# EAGLE library part CPD-23011SG1/A (library LED)
CPD23011 7-segment LED
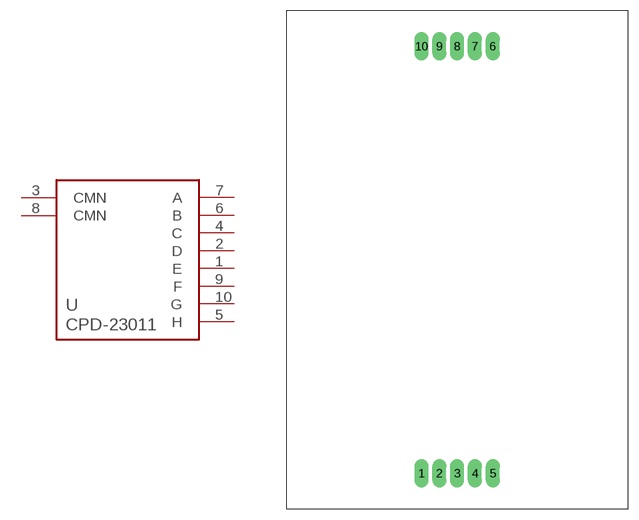
[diagram p0: symbol with the pads of CPD23011; footprint CPD23011]

Designator prefix -

## CPD-23011SG1/A  [CPD23011]
1  E
2  D
3  CMN
4  C
5  H
6  B
7  A
8  CMN
9  F
10  G

## Footprint CPD23011 (pad centres in mm)
drill 0.5 pad 2 long: 1 -5,-30; 2 -2.5,-30; 3 0,-30; 4 2.5,-30; 5 5,-30; 6 5,30; 7 2.5,30; 8 0,30; 9 -2.5,30; 10 -5,30